# Altium footprint library MIC_VM3000.PcbLib: 1 footprints
Each footprint in its own frame and in the unit in brackets; x right, y up, seen from the top. Pads: shape width x height; smd on the part's side, far side on the other; paste and mask are expansions set on the pad; w line width, h text height; cw(c..) or ccw(c..) is an arc to the next point about the centre after c.
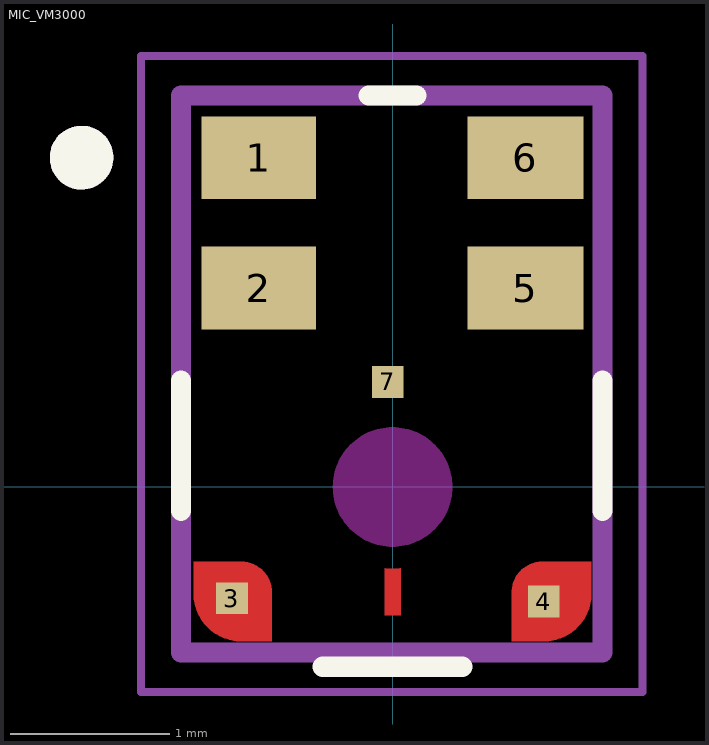
[diagram p0: the footprint, top view; thin cyan lines are the x and y axes]

## MIC_VM3000 [mm]
pads (7):
  rect 0.72x0.52 smd: 1(-0.84,2.07) 2(-0.84,1.25)
  rect 0.2x0.2 smd paste-1 mask+0: 3(-1.01,-0.7) 4(0.95,-0.72) 7(-0.03,0.66)
  rect 0.73x0.52 smd: 5(0.835,1.25) 6(0.835,2.07)
Top Layer:
  region: -0.94,-0.47 -0.93,-0.471 -0.92,-0.472 -0.91,-0.474 -0.901,-0.476 -0.891,-0.479 -0.882,-0.483 -0.873,-0.486 -0.864,-0.491 -0.855,-0.495 -0.847,-0.501 -0.838,-0.506 -0.83,-0.512 -0.823,-0.519 -0.816,-0.526 -0.809,-0.533 -0.802,-0.54 -0.796,-0.548 -0.791,-0.557 -0.785,-0.565 -0.781,-0.574 -0.776,-0.583 -0.773,-0.592 -0.769,-0.601 -0.766,-0.611 -0.764,-0.62 -0.762,-0.63 -0.761,-0.64 -0.76,-0.65 -0.76,-0.66 -0.76,-0.97 -0.95,-0.97 -0.966,-0.97 -0.981,-0.968 -0.997,-0.966 -1.012,-0.963 -1.028,-0.96 -1.043,-0.955 -1.058,-0.95 -1.072,-0.944 -1.086,-0.937 -1.1,-0.93 -1.113,-0.922 -1.126,-0.913 -1.139,-0.903 -1.151,-0.893 -1.162,-0.882 -1.173,-0.871 -1.183,-0.859 -1.193,-0.846 -1.202,-0.833 -1.21,-0.82 -1.217,-0.806 -1.224,-0.792 -1.23,-0.778 -1.235,-0.763 -1.24,-0.748 -1.243,-0.732 -1.246,-0.717 -1.248,-0.701 -1.25,-0.686 -1.25,-0.67 -1.25,-0.47 -0.95,-0.47
  region: 1.25,-0.67 1.25,-0.686 1.248,-0.701 1.246,-0.717 1.243,-0.732 1.24,-0.748 1.235,-0.763 1.23,-0.778 1.224,-0.792 1.217,-0.806 1.21,-0.82 1.202,-0.833 1.193,-0.846 1.183,-0.859 1.173,-0.871 1.162,-0.882 1.151,-0.893 1.139,-0.903 1.126,-0.913 1.113,-0.922 1.1,-0.93 1.086,-0.937 1.072,-0.944 1.058,-0.95 1.043,-0.955 1.028,-0.96 1.012,-0.963 0.997,-0.966 0.981,-0.968 0.966,-0.97 0.95,-0.97 0.75,-0.97 0.75,-0.66 0.75,-0.65 0.751,-0.64 0.752,-0.63 0.754,-0.62 0.756,-0.611 0.759,-0.601 0.763,-0.592 0.766,-0.583 0.771,-0.574 0.775,-0.565 0.781,-0.557 0.786,-0.548 0.792,-0.54 0.799,-0.533 0.806,-0.526 0.813,-0.519 0.82,-0.512 0.828,-0.506 0.837,-0.501 0.845,-0.495 0.854,-0.491 0.863,-0.486 0.872,-0.483 0.881,-0.479 0.891,-0.476 0.9,-0.474 0.91,-0.472 0.92,-0.471 0.93,-0.47 0.94,-0.47 1.25,-0.47
  region: 0.05,-0.806 0.053,-0.806 0.05,-0.806 0.049,-0.806 0.045,-0.807 0.042,-0.807 0.038,-0.807 0.034,-0.807 0.03,-0.807 0.026,-0.807 0.023,-0.808 0.019,-0.808 0.015,-0.808 0.011,-0.808 0.008,-0.808 0.004,-0.808 0,-0.808 -0.004,-0.808 -0.008,-0.808 -0.011,-0.808 -0.015,-0.808 -0.019,-0.808 -0.023,-0.808 -0.026,-0.807 -0.03,-0.807 -0.034,-0.807 -0.038,-0.807 -0.042,-0.807 -0.045,-0.807 -0.049,-0.806 -0.05,-0.806 -0.053,-0.806 -0.05,-0.806 -0.05,-0.512 -0.049,-0.512 -0.046,-0.512 -0.042,-0.513 -0.039,-0.513 -0.035,-0.513 -0.032,-0.513 -0.028,-0.514 -0.025,-0.514 -0.021,-0.514 -0.018,-0.514 -0.014,-0.514 -0.011,-0.514 -0.007,-0.514 -0.004,-0.514 0,-0.514 0.004,-0.514 0.007,-0.514 0.011,-0.514 0.014,-0.514 0.018,-0.514 0.021,-0.514 0.025,-0.514 0.028,-0.514 0.032,-0.513 0.035,-0.513 0.039,-0.513 0.042,-0.513 0.046,-0.512 0.049,-0.512 0.05,-0.512
Top Overlay:
  circle w0.2: c-1.955,2.07 r0.1
  lines w0.127: -1.33,-0.15 -1.33,0.67 ; -0.44,-1.13 0.44,-1.13 ; -0.15,2.46 0.15,2.46 ; 1.32,-0.15 1.32,0.67
Top Paste:
  drawing of 4 lines, arcs and shapes, not listed
Top Solder:
  drawing of 4 lines, arcs and shapes, not listed
Keep-Out Layer:
  drawing of 2 lines, arcs and shapes, not listed
Mechanical 13:
  circle w0.2: c-1.955,2.07 r0.1
  lines w0.127: -1.33,-1.04 -1.33,2.46 1.32,2.46 1.32,-1.04 -1.33,-1.04
Mechanical 15:
  lines w0.05: -1.58,-1.29 -1.58,2.71 1.57,2.71 1.57,-1.29 -1.58,-1.29
3D body "step_temp.STEP": height 1.4, standoff 0, extent -1.325,-1.04 1.325,2.46